# Altium footprint library Comparators.PcbLib: 1 footprints
Each footprint in its own frame and in the unit in brackets; x right, y up, seen from the top. Pads: shape width x height; smd on the part's side, far side on the other; paste and mask are expansions set on the pad; w line width, h text height; cw(c..) or ccw(c..) is an arc to the next point about the centre after c.
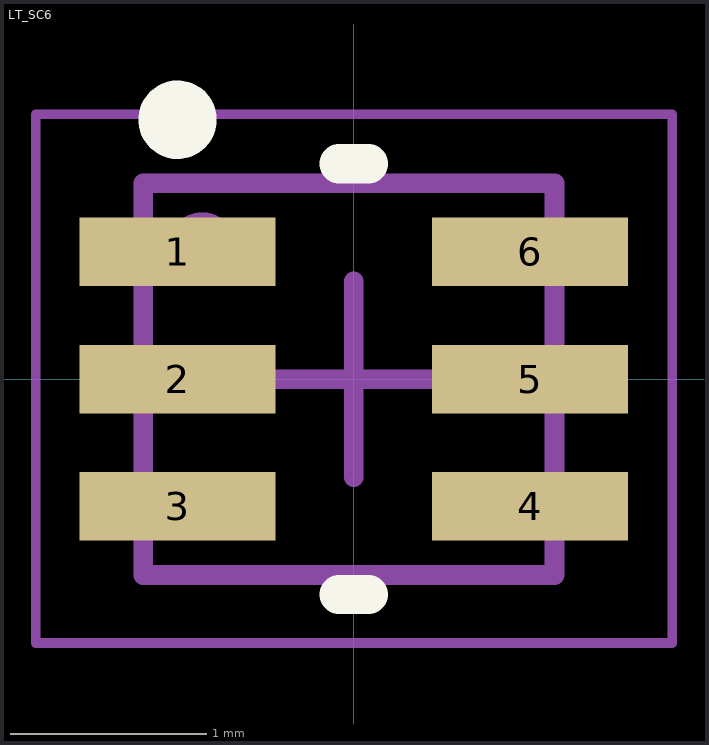
[diagram p0: the footprint, top view; thin cyan lines are the x and y axes]

## LT_SC6 [mm] "SC70, 6-Leads, Body 2x1.25mm, Pitch 0.65mm"
height 1
pads (6):
  rect 1x0.35 smd: 1(-0.9,0.65) 2(-0.9,0) 3(-0.9,-0.65) 4(0.9,-0.65) 5(0.9,0) 6(0.9,0.65)
Top Overlay:
  circle w0.25: c-0.9,1.325 r0.075
  lines w0.2: -0.075,-1.1 0.075,-1.1 ; -0.075,1.1 0.075,1.1
Mechanical 1:
  lines w0.1: -1.075,-1 -1.075,1 1.025,1 1.025,-1 -1.075,-1
Mechanical 15:
  lines w0.05: -1.624,-1.347 1.626,-1.347 1.626,1.353 -1.624,1.353 -1.624,-1.347
  lines w0.1: -0.5,0 0.5,0 ; 0,-0.5 0,0.5
Mechanical 25:
  circle w0.254: c-0.775,0.675 r0.05
3D body "User Library-SC70-6.step": height 0.92, standoff -0.03, extent -1.075,-0.975 1.025,1.025